# Altium footprint library PCB_Lib.PcbLib: 301 footprints (part 12 of 19)
Each footprint in its own frame and in the unit in brackets; x right, y up, seen from the top. Pads: shape width x height; smd on the part's side, far side on the other; paste and mask are expansions set on the pad; w line width, h text height; cw(c..) or ccw(c..) is an arc to the next point about the centre after c.
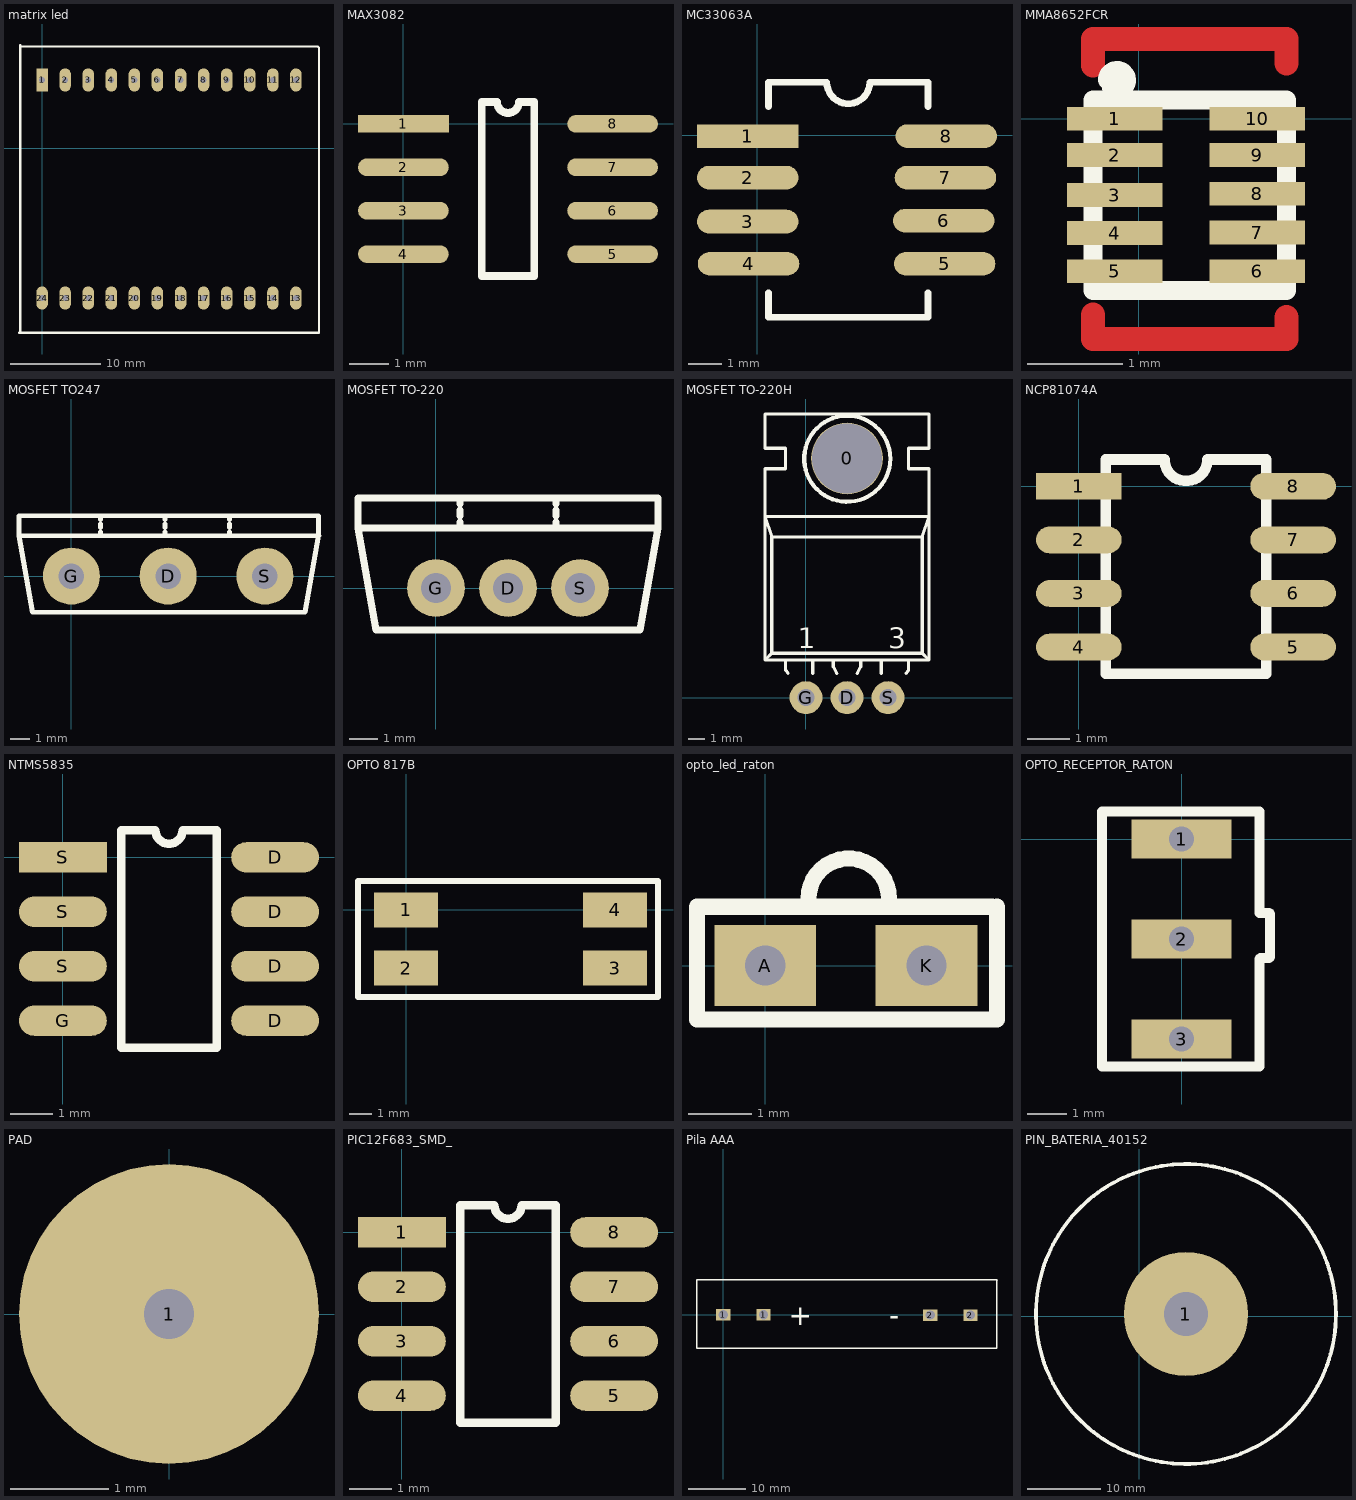
[diagram p11: the footprints below, top view; thin cyan lines are the x and y axes]

## matrix led [mil]
pads (24):
  rect 50x100 hole 25: 1(0,295)
  oval 50x100 hole 25: 2(100,295) 3(200,295) 4(300,295) 5(400,295) 6(500,295) 7(600,295) 8(700,295) 9(800,295) 10(900,295) 11(1000,295) 12(1100,295) 13(1100,-650) 14(1000,-650) 15(900,-650) 16(800,-650) 17(700,-650) 18(600,-650) 19(500,-650) 20(400,-650) 21(300,-650) 22(200,-650) 23(100,-650) 24(0,-650)
Top Overlay:
  lines w10: -100,-800 -95,-795 -95,445 -90,440 1195,440 1200,435 1200,-800 -100,-800

## MAX3082 [mm]
pads (8):
  rect 2.3x0.45 smd: 1(0,0)
  oval 2.3x0.45 smd: 2(0,-1.1) 3(0,-2.2) 4(0,-3.3) 5(5.3,-3.3) 6(5.3,-2.2) 7(5.3,-1.1) 8(5.3,0)
Top Overlay:
  lines w0.2: 1.985,-3.85 3.315,-3.85 3.315,0.55 2.925,0.55 cw(c2.65,0.55) 2.375,0.55 1.985,0.55 1.985,-3.85

## MC33063A [mm]
pads (8):
  rect 3x0.7 smd: 1(-0.275,-0.025)
  oval 3x0.7 smd: 2(-0.275,-1.25) 3(-0.275,-2.55) 4(-0.25,-3.8) 5(5.55,-3.8) 6(5.525,-2.525) 7(5.575,-1.25) 8(5.6,-0.025)
Top Overlay:
  lines w0.2: 0.34,-4.66 0.34,-5.38 5.06,-5.38 5.06,-4.66 ; 0.34,0.85 0.34,1.57 2.065,1.57 ccw(c2.7,1.57) 3.335,1.57 5.06,1.57 5.06,0.85

## MMA8652FCR [mm]
pads (10):
  rect 1x0.25 smd: 1(-0.254,0) 2(-0.254,-0.381) 3(-0.254,-0.8) 4(-0.254,-1.2) 5(-0.254,-1.6) 6(1.245,-1.6) 7(1.245,-1.194) 8(1.245,-0.787) 9(1.245,-0.381) 10(1.245,0)
Top Layer:
  lines w0.254: -0.483,-2.057 -0.483,-2.311 1.549,-2.311 1.549,-2.083 ; -0.483,0.559 -0.483,0.838 1.549,0.838 1.549,0.584
Top Overlay:
  lines w0.2: -0.33,0.406 cw(c-0.23,0.406) -0.289,0.326 ; 0.4,0.2 1.549,0.2 1.549,-1.8 -0.483,-1.8 -0.483,0.2 0.6,0.2

## MOSFET TO247 [mm]
pads (3):
  round 3 hole 1.33: D(5.08,0) G(0,0) S(10.16,0)
Top Overlay:
  lines w0.254: 1.525,2.117 1.525,2.328 ; 1.525,2.54 1.525,2.752 ; 1.525,2.963 1.525,3.175 ; 8.298,2.117 8.298,2.328 ; 8.298,2.54 8.298,2.752 ; 8.298,2.963 8.298,3.175 ; 12.975,2.142 12.975,3.175 -2.752,3.175 -2.752,2.117 ; 12.978,2.139 12.265,-1.9 -2.043,-1.9 -2.752,2.117 ; 13,2.117 -2.752,2.117 ; 4.912,2.117 4.912,2.328 4.912,2.117 ; 4.912,2.54 4.912,2.752 4.912,2.54 ; 4.912,2.963 4.912,3.175 4.912,2.963

## MOSFET TO-220 [mil]
pads (3):
  round 80 hole 42: D(100,0) G(0,0) S(200,0)
Top Overlay:
  lines w10: 33.33,83.33 33.33,91.67 ; 33.33,100 33.33,108.33 ; 33.33,116.67 33.33,125 ; 166.67,83.33 166.67,91.67 ; 166.67,100 166.67,108.33 ; 166.67,116.67 166.67,125 ; -108.33,83.33 308.33,83.33 ; -108.33,83.33 -83.33,-58.33 283.33,-58.33 308.33,83.33 ; -108.33,83.33 -108.33,125 308.33,125 308.33,83.33

## MOSFET TO-220H [mil]
pads (4):
  round 175 hole 170: 0(100,583.33)
  round 80 hole 42: D(100,0) G(0,0) S(200,0)
Top Overlay:
  circle w10: c100.67,582.53 r105
  lines w7.87: -50,66.67 -50,91.67 ; -48.11,65.41 -43.58,59.05 ; 16.67,59.05 16.67,91.67 ; 66.67,91.67 66.67,75 75,59.05 ; 125,59.05 133.33,75 133.33,91.67 ; 183.33,59.05 183.33,91.67 ; 243.9,59.05 250.31,67.61 ; 250,66.67 250,91.67 ; -100,91.67 -100,558.33 -50,558.33 -50,608.33 -100,608.33 -100,691.67 300,691.67 300,608.33 250,608.33 250,558.33 300,558.33 300,91.67 ; -100,91.67 300,91.67 ; -100,91.67 -83.33,108.33 ; -83.33,108.33 -83.33,391.67 ; -83.33,108.33 283.33,108.33 ; -83.33,391.67 -100,441.67 300,441.67 283.33,391.67 ; -83.33,391.67 283.33,391.67 ; 283.33,108.33 283.33,391.67 ; 283.33,108.33 300,91.67
  text "3" at 200,120 h50
  text "1" at -20,120 h50

## NCP81074A [mil] "Driver"
pads (8):
  rect 80x25 smd: 1(0,0)
  oval 80x25 smd: 2(0,-50) 3(0,-100) 4(0,-150) 5(200,-150) 6(200,-100) 7(200,-50) 8(200,0)
Top Overlay:
  lines w10: 25,-175 25,25 80,25 ccw(c100,25) 120,25 175,25 175,-175 25,-175

## NTMS5835 [mm]
pads (8):
  oval 2.05x0.71 smd: D(4.95,-3.81) D(4.95,-2.54) D(4.95,-1.27) D(4.95,0) G(0,-3.81) S(0,-2.54) S(0,-1.27)
  rect 2.05x0.71 smd: S(0,0)
Top Overlay:
  lines w0.2: 1.36,-4.445 3.59,-4.445 3.59,0.635 2.792,0.635 cw(c2.475,0.635) 2.157,0.635 1.36,0.635 1.36,-4.445

## OPTO 817B [mil]
pads (4):
  rect 110x60 smd: 1(0,0) 2(0,-100) 3(360,-100) 4(360,0)
Top Overlay:
  lines w10: -82.68,-150 -82.68,50 434.06,50 434.06,-150 -82.68,-150

## opto_led_raton [mm]
pads (2):
  rect 1.6x1.27 hole 0.635: A(0,0) K(2.54,0)
Top Overlay:
  lines w0.254: 0.68,1.05 cw(c1.315,1.05) 1.95,1.05 ; -1.075,0.925 -1.075,-0.85 3.65,-0.85 ; -1.075,0.925 3.575,0.925 -1.075,0.925 ; 3.65,-0.85 3.65,0.925 3.65,-0.85

## OPTO_RECEPTOR_RATON [mm]
pads (3):
  rect 2.54x1 hole 0.635: 1(0,0) 2(0,-2.54) 3(0,-5.08)
Top Overlay:
  lines w0.254: 1.975,-3.05 1.975,-5.775 -2.025,-5.775 -2.025,0.7 1.975,0.7 1.975,-1.875 2.225,-1.875 2.25,-1.9 2.25,-3 2.225,-3.025 2,-3.025 ; 1.975,-3.05 2,-3.025 ; 1.975,-3.05 2,-3.025

## PAD [mil] "Simplemente un PAD"
pads (1):
  round 120 hole 20: 1(0,0)

## PIC12F683_SMD_ [mm]
pads (8):
  rect 2.05x0.71 smd: 1(0,0)
  oval 2.05x0.71 smd: 2(0,-1.27) 3(0,-2.54) 4(0,-3.81) 5(4.95,-3.81) 6(4.95,-2.54) 7(4.95,-1.27) 8(4.95,0)
Top Overlay:
  lines w0.2: 1.36,-4.445 3.59,-4.445 3.59,0.635 2.792,0.635 cw(c2.475,0.635) 2.157,0.635 1.36,0.635 1.36,-4.445

## Pila AAA [mm]
pads (4):
  rect 2.5x2 hole 1.62: 1(0,0) 1(7,0) 2(35.925,-0.05) 2(42.925,-0.05)
Top Overlay:
  lines w0.254: 47.45,-5.8 47.475,-5.775 ; 47.45,-5.8 -4.55,-5.8 -4.55,0.075 -4.55,6.075 47.525,6.075 47.475,6.025 47.475,-0.125 47.475,-5.775 ; 47.45,-5.8 47.475,-5.775
  text "+" at 11.35,-1.775 h3.52
  text "-" at 28.85,-1.775 h3.52
3D body "CLIP AAA.STEP": height 17.85, standoff -2.86, extent 35.643,-7.875 45.157,7.885
3D body "CLIP AAA.STEP": height 17.85, standoff -2.86, extent -2.257,-8.15 7.257,7.61
3D body "User Library-AAA Battery-2.STEP": height 15.28, standoff 5.03, extent -0.475,-5.075 43.875,5.175

## PIN_BATERIA_40152 [mm]
pads (1):
  round 17 hole 6: 1(6.375,0.305)
Top Overlay:
  circle w0.5: c6.375,0.305 r20.5